# EAGLE library part CD4069UB (library ic-logic)
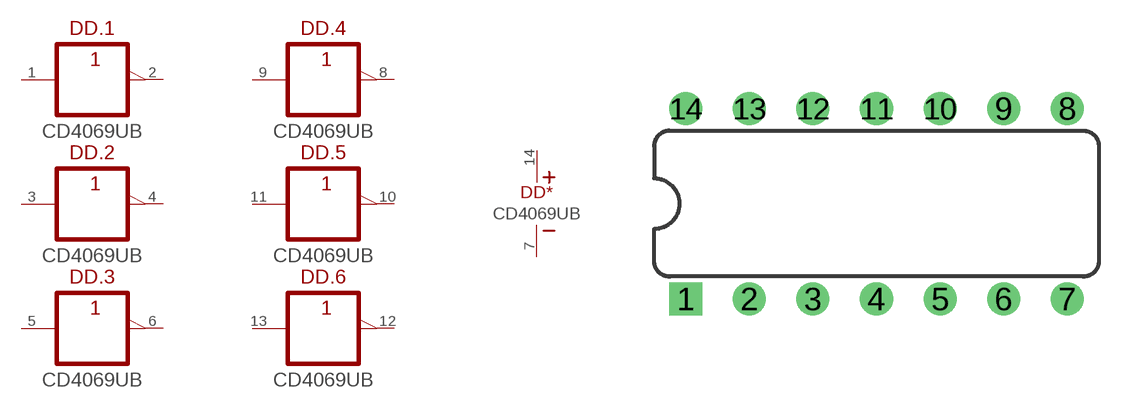
[diagram p2: symbol with the pads of DIP-14; footprint DIP-14]

Designator prefix DD; gates .1=04 .2=04 .3=04 .4=04 .5=04 .6=04 *=SUPPLY

## CD4069UBE  [DIP-14]
1  .1:A  in
2  .1:Y  out
3  .2:A  in
4  .2:Y  out
5  .3:A  in
6  .3:Y  out
7  *:V-  pwr
8  .4:Y  out
9  .4:A  in
10  .5:Y  out
11  .5:A  in
12  .6:Y  out
13  .6:A  in
14  *:V+  pwr

## Footprint DIP-14 (pad centres in mm)
drill 0.813 square: 1 -7.62,-3.81
drill 0.813: 2 -5.08,-3.81; 3 -2.54,-3.81; 4 0,-3.81; 5 2.54,-3.81; 6 5.08,-3.81; 7 7.62,-3.81; 8 7.62,3.81; 9 5.08,3.81; 10 2.54,3.81; 11 0,3.81; 12 -2.54,3.81; 13 -5.08,3.81; 14 -7.62,3.81